# Altium integrated library Silicon Labs Modems and DAAs.IntLib: 95 symbols (part 7 of 7)
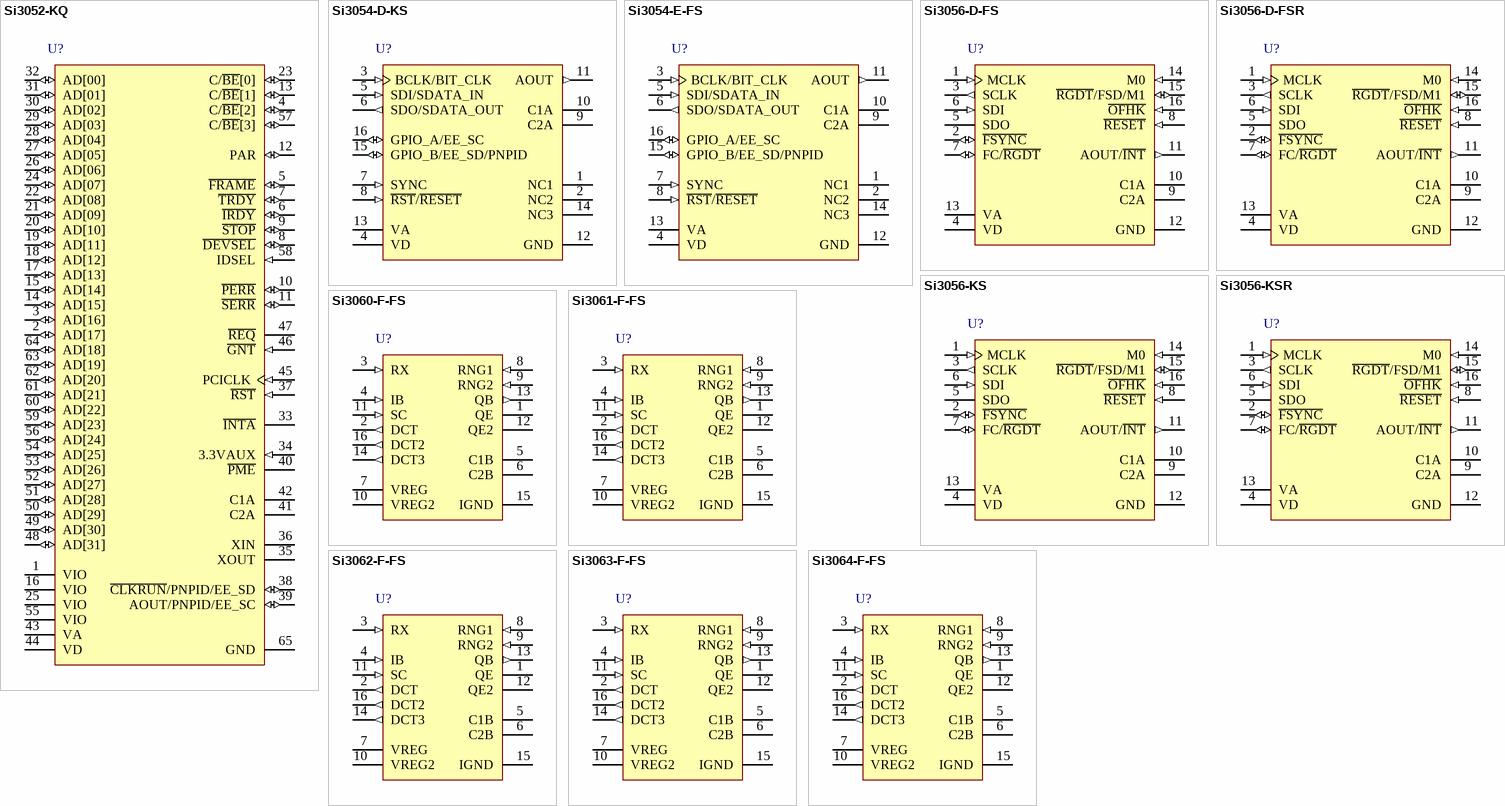
[diagram p10: symbols Si3052-KQ to Si3064-F-FS]

## Si3064-F-FS
designator U?
Global Line-Side DAA for Embedded System-Side Module with Line Voltage Monitor, 0 to 70 degC, 16-pin SOIC, Tube; Manufacturer: Silicon Labs; PartNumber: Si3064-F-FS; Host Interface: Integrated in host; Line Voltage Monitor: TRUE; Sub-Family: Silicon DAAs; DatasheetVersion: Rev. 0.9; PackageReference: SOIC-16-NB; PackageDescription: 16-Pin Small-Outline Integrated Circuit, Body 9.9 x 3.9 mm, Pitch 1.27 mm; Packing: Tube; Region: Global; Mounting Technology: Surface Mount; Code_JEDEC: MS-012; Code_IPC: J-STD-020; ComponentLink1Description: Manufacturer URL; ComponentLink1URL: http://www.silabs.com/; ComponentLink2Description: Datasheet; ComponentLink2URL: http://www.silabs.com/Support%20Documents/TechnicalDocs/si306x.pdf; ComponentLink3Description: Package Specification; ComponentLink3URL: http://www.silabs.com/Support%20Documents/TechnicalDocs/si2401.pdf
footprint SLAB-SOIC-16-NB_N (SOIC, 16-Leads, Body 9.9x3.9mm, Pitch 1.27mm, IPC Medium Density)
footprint SLAB-SOIC-16-NB_L (SOIC, 16-Leads, Body 9.9x3.9mm, Pitch 1.27mm, IPC High Density)
footprint SLAB-SOIC-16-NB_M (SOIC, 16-Leads, Body 9.9x3.9mm, Pitch 1.27mm, IPC Low Density)
pins: 1 QE "Transistor Emitter. Connects to the emitter of Q3.", 2 DCT (out) "DC Termination. Provides dc termination to the telephone network.", 3 RX (in) "Receive Input. Serves as the receive side input from the telephone network.", 4 IB (in) "Internal Bias. Provides a bias voltage to the device.", 5 C1B "Isolation Capacitor 1B. Connects to one side of isolation capacitor C1. Used to communicate with the system-side device.", 6 C2B "Isolation Capacitor 2B. Connects to one side of isolation capacitor C2. Used to communicate with the system-side device.", 7 VREG (power) "Voltage Regulator. Connects to an external capacitor to provide bypassing for an internal power supply.", 8 RNG1 (in) "Ring 1. Connects through a resistor to the RING lead of the telephone line.", 9 RNG2 (in) "Ring 2. Connects through a resistor to the RING lead of the telephone line.", 10 VREG2 (power) "Voltage Regulator 2. Connects to an external capacitor to provide bypassing for an internal power supply.", 11 SC (in) "SC Connection. Enables external transistor network. Should be tied through a 0 ohm resistor to IGND.", 12 QE2 "Transistor Emitter 2. Connects to the emitter of Q4.", 13 QB (out) "Transistor Base. Connects to the base of transistor Q4.", 14 DCT3 (out) "DC Termination 3. Provides dc termination to the telephone network.", 15 IGND (power) "Isolated Ground.Connects to ground on the line-side interface.", 16 DCT2 (out) "DC Termination 2. Provides dc termination to the telephone network"